# Altium schematic symbol library Schematics.SchLib: 3 symbols
Pins are listed as number, name and electrical type; pins without a type are passive.

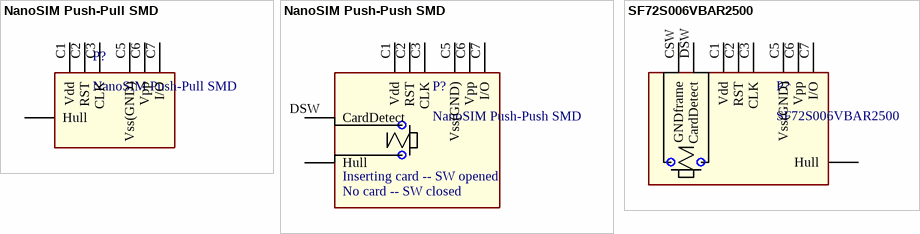
[diagram p0: symbols NanoSIM Push-Pull SMD to SF72S006VBAR2500]

## NanoSIM Push-Pull SMD
designator P?
Supplier 1: Digi-Key; Supplier Part Number 1: 732-5954-1-ND
footprint Nano SIM Push-Pull SMD
pins: C1 Vdd, C2 RST, C3 CLK, C5 Vss(GND), C6 Vpp, C7 I/O, Hull

## NanoSIM Push-Push SMD
designator P?
footprint NanoSIM Push-Push SMD
pins: C1 Vdd, C2 RST, C3 CLK, C5 Vss(GND), C6 Vpp, C7 I/O, DSW CardDetect, Hull
text: Inserting card -- SW opened; No card -- SW closed

## SF72S006VBAR2500
designator P?
NanoSIM Push-Push SMD SS72 JAE
footprint SF72S006VBAR2500 (NANO SIM PUSH-PUSH CARD DETECT SMD SS72 JAE)
pins: C1 Vdd, C2 RST, C3 CLK, C5 Vss(GND), C6 Vpp, C7 I/O, CSW GNDframe, DSW CardDetect, Hull